# Altium schematic symbol library Transformer_RM8.SchLib: 1 symbol
Pins are listed as number, name and electrical type; pins without a type are passive.

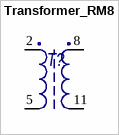
[diagram p0: symbol Transformer_RM8]

## Transformer_RM8
designator T?
pins: 2, 5, 8 3, 11 4